# Altium footprint library LED-XTAL.PCBLIB: 105 footprints (part 7 of 7)
Each footprint in its own frame and in the unit in brackets; x right, y up, seen from the top. Pads: shape width x height; smd on the part's side, far side on the other; paste and mask are expansions set on the pad; w line width, h text height; cw(c..) or ccw(c..) is an arc to the next point about the centre after c.
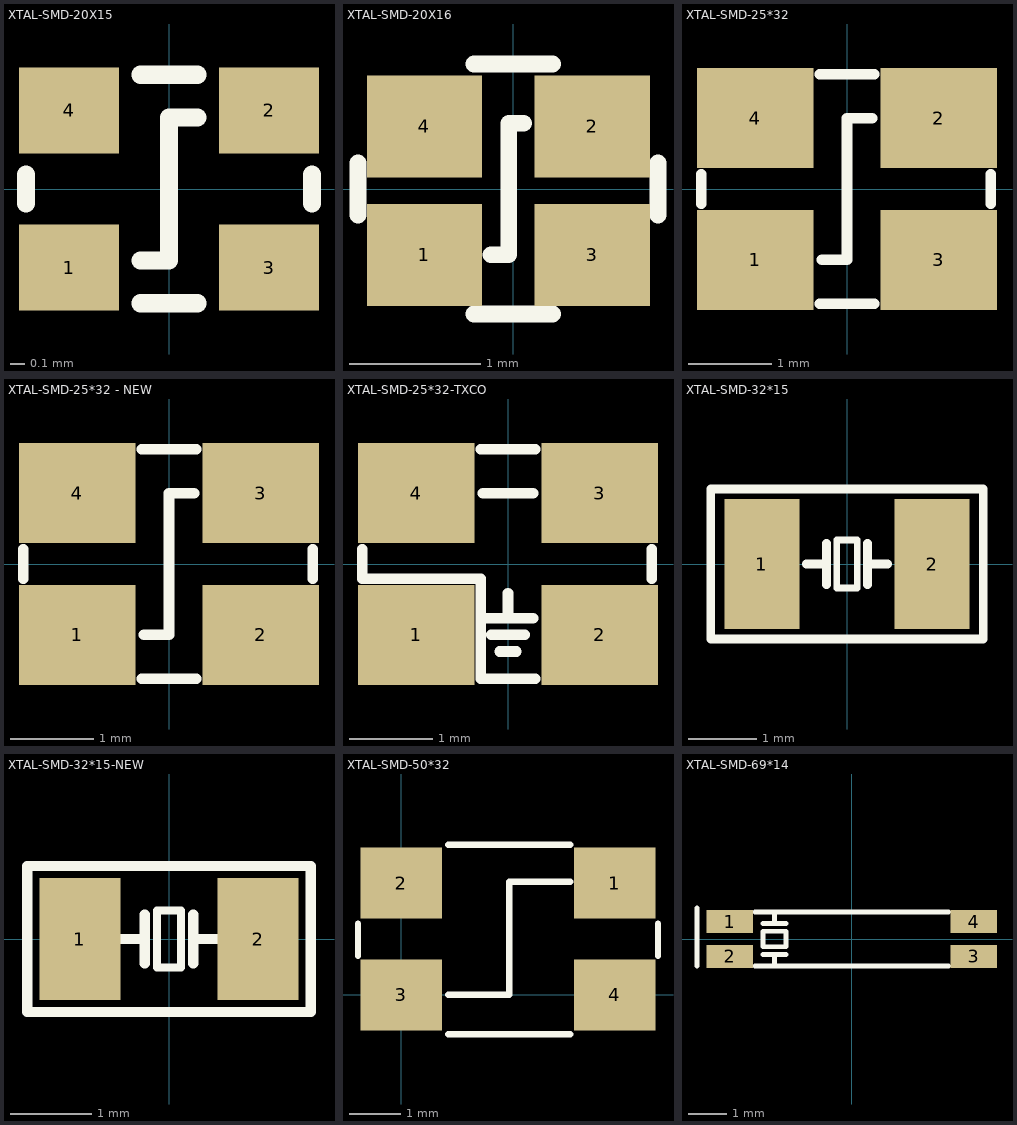
[diagram p6: the footprints below, top view; thin cyan lines are the x and y axes]

## XTAL-SMD-20X15 [mm] "XTAL-SMD-20X15"
pads (4):
  rect 0.7x0.6 smd: 1(-0.7,-0.55) 2(0.7,0.55) 3(0.7,-0.55) 4(-0.7,0.55)
TopOverlay:
  lines w0.127: -1,-0.1 -1,0.1 ; -0.2,-0.8 0.2,-0.8 ; -0.2,-0.5 0,-0.5 0,0.5 0.2,0.5 ; -0.2,0.8 0.2,0.8 ; 1,-0.1 1,0.1

## XTAL-SMD-20X16 [mm] "XTAL-SMD-20X16"
pads (4):
  rect 0.875x0.775 smd: 1(-0.675,-0.5) 2(0.6,0.475) 3(0.6,-0.5) 4(-0.675,0.475)
TopOverlay:
  lines w0.127: -1.18,-0.2 -1.18,0.2 ; -0.3,-0.95 0.3,-0.95 ; -0.3,0.95 0.3,0.95 ; -0.17,-0.5 -0.035,-0.5 -0.035,0.5 0.08,0.5 ; 1.1,-0.2 1.1,0.2

## XTAL-SMD-25*32 [mm]
pads (4):
  rect 1.4x1.2 smd: 1(-1.1,-0.85) 2(1.1,0.85) 3(1.1,-0.85) 4(-1.1,0.85)
TopOverlay:
  lines w0.127: -1.75,-0.175 -1.75,0.175 ; -0.325,-1.375 0.325,-1.375 ; -0.325,1.375 0.325,1.375 ; -0.3,-0.85 0,-0.85 0,0.85 0.3,0.85 ; 1.725,-0.175 1.725,0.175

## XTAL-SMD-25*32 - NEW [mm] "XTAL-SMD-25*32 - NEW"
pads (4):
  rect 1.4x1.2 smd: 1(-1.1,-0.85) 2(1.1,-0.85) 3(1.1,0.85) 4(-1.1,0.85)
TopOverlay:
  lines w0.127: -1.75,-0.175 -1.75,0.175 ; -0.325,-1.375 0.325,-1.375 ; -0.325,1.375 0.325,1.375 ; -0.3,-0.85 0,-0.85 0,0.85 0.3,0.85 ; 1.725,-0.175 1.725,0.175

## XTAL-SMD-25*32-TXCO [mm]
pads (4):
  rect 1.4x1.2 smd: 1(-1.1,-0.85) 2(1.1,-0.85) 3(1.1,0.85) 4(-1.1,0.85)
TopOverlay:
  lines w0.127: -1.75,0.175 -1.75,-0.175 -0.325,-0.175 -0.325,-1.375 0.325,-1.375 ; -0.325,1.375 0.325,1.375 ; -0.3,-0.65 0.3,-0.65 ; -0.3,0.85 0,0.85 0.3,0.85 ; -0.2,-0.85 0.2,-0.85 ; -0.1,-1.05 0.1,-1.05 ; 0,-0.65 0,-0.35 ; 1.725,-0.175 1.725,0.175

## XTAL-SMD-32*15 [mm]
pads (2):
  rect 1.1x1.9 smd: 1(-1.25,0) 2(1.25,0)
TopOverlay:
  lines w0.1: -0.15,-0.35 -0.15,0.35 0.15,0.35 0.15,-0.35 -0.15,-0.35
  lines w0.127: -0.6,0 -0.3,0 ; -0.3,-0.3 -0.3,0.3 ; 0.3,-0.3 0.3,0.3 ; 0.3,0 0.6,0 ; -2,-1.1 2,-1.1 2,1.1 -2,1.1 -2,-1.1

## XTAL-SMD-32*15-NEW [mm] "XTAL-SMD-32*15-NEW"
pads (2):
  rect 1x1.5 smd: 1(-1.1,0) 2(1.1,0)
TopOverlay:
  lines w0.1: -0.15,-0.35 0.15,-0.35 0.15,0.35 -0.15,0.35 -0.15,-0.35
  lines w0.127: -0.6,0 -0.3,0 ; -0.3,-0.3 -0.3,0.3 ; 0.3,-0.3 0.3,0.3 ; 0.3,0 0.6,0 ; -1.75,-0.9 -1.75,0.9 1.75,0.9 1.75,-0.9 -1.75,-0.9

## XTAL-SMD-50*32 [mm] "XTAL-SMD-50*32"
pads (4):
  rect 1.6x1.4 smd: 1(4.2,2.2) 2(0,2.2) 3(0,0) 4(4.2,0)
TopOverlay:
  lines w0.127: -0.85,0.775 -0.85,1.4 ; 0.925,-0.775 3.325,-0.775 ; 0.925,0 2.125,0 2.125,2.225 3.325,2.225 ; 0.925,2.95 3.325,2.95 ; 5.05,0.775 5.05,1.4

## XTAL-SMD-69*14 [mm]
pads (4):
  rect 1.2x0.6 smd: 1(-3.15,0.45) 2(-3.15,-0.45) 3(3.15,-0.45) 4(3.15,0.45)
TopOverlay:
  lines w0.127: -4,-0.7 -4,0.8 ; -2.5,-0.7 2.5,-0.7 ; -2.5,0.7 2.5,0.7 ; -2.3,-0.4 -1.7,-0.4 ; -2.3,0.4 -1.7,0.4 ; -2,-0.7 -2,-0.4 ; -2,0.4 -2,0.7 ; -2.3,-0.2 -1.7,-0.2 -1.7,0.2 -2.3,0.2 -2.3,-0.2